# EAGLE library part CONN_10-1 (library molex)
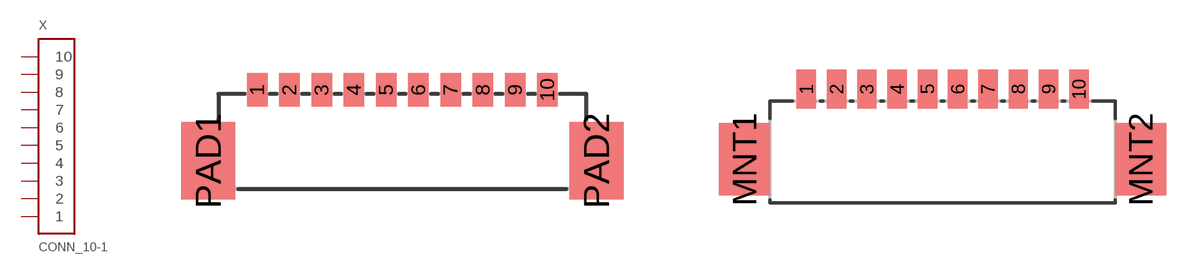
[diagram p7: symbol with the pads of PB-53398-10; footprints PB-53398-10, PB-53261-10]

Designator prefix X

## CONN_10-1-53398  [PB-53398-10]
1  1
2  2
3  3
4  4
5  5
6  6
7  7
8  8
9  9
10  10

## CONN_10-1-53261  [PB-53261-10]
Pads as for PB-53398-10

## CONN_10-1-53047  [PB-53047-10]
Pads as for PB-53398-10

## Footprint PB-53398-10 (pad centres in mm)
smd 0.8 x 1.3: 1 -5.625,1.25; 2 -4.375,1.25; 3 -3.125,1.25; 4 -1.875,1.25; 5 -0.625,1.25; 6 0.625,1.25; 7 1.875,1.25; 8 3.125,1.25; 9 4.375,1.25; 10 5.625,1.25
smd 2.1 x 3: PAD1 -7.525,-1.5; PAD2 7.525,-1.5

## Footprint PB-53261-10 (pad centres in mm)
smd 0.8 x 1.6: 1 -5.625,1.1; 2 -4.375,1.1; 3 -3.125,1.1; 4 -1.875,1.1; 5 -0.625,1.1; 6 0.625,1.1; 7 1.875,1.1; 8 3.125,1.1; 9 4.375,1.1; 10 5.625,1.1
smd 2.1 x 3: MNT1 -8.175,-1.8; MNT2 8.175,-1.8

## Footprint PB-53047-10 (pad centres in mm)
drill 0.5 round: 1 -5.625,0; 2 -4.375,0; 3 -3.125,0; 4 -1.875,0; 5 -0.625,0; 6 0.625,0; 7 1.875,0; 8 3.125,0; 9 4.375,0; 10 5.625,0